# EAGLE library part CK1049_1X12 (library #PaJa_prepinace)
Otocny prepinac 1 x 12
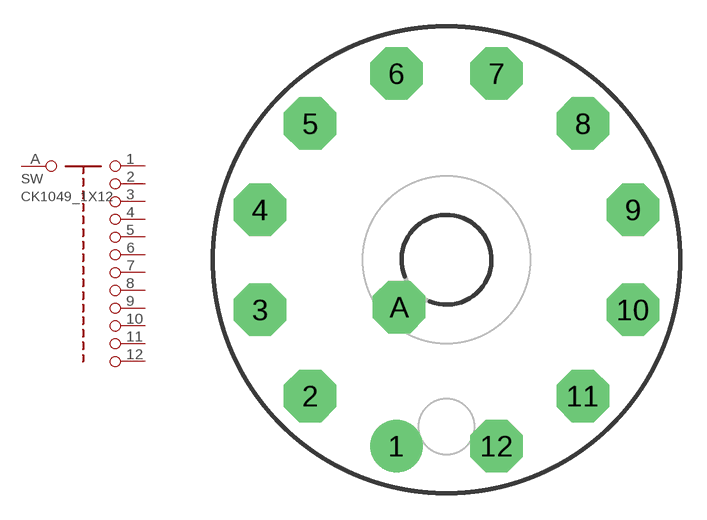
[diagram p2: symbol with the pads of SWITCH1X12; footprint SWITCH1X12]

Designator prefix SW

## CK1049_1X12  [SWITCH1X12]
1  1  pas
2  2  pas
3  3  pas
4  4  pas
5  5  pas
6  6  pas
7  7  pas
8  8  pas
9  9  pas
10  10  pas
11  11  pas
12  12  pas
A  A  pas

## Footprint SWITCH1X12 (pad centres in mm)
drill 1.5 pad 3 round: 1 -2.857,-10.636
drill 1.5 pad 3 octagon: 2 -7.779,-7.779; 3 -10.636,-2.857; 4 -10.636,2.857; 5 -7.779,7.779; 6 -2.857,10.636; 7 2.857,10.636; 8 7.779,7.779; 9 10.636,2.857; 10 10.636,-2.857; 11 7.779,-7.779; 12 2.857,-10.636; A -2.699,-2.699